# Altium footprint library RESISTOR.PcbLib: 17 footprints (part 1 of 2)
Each footprint in its own frame and in the unit in brackets; x right, y up, seen from the top. Pads: shape width x height; smd on the part's side, far side on the other; paste and mask are expansions set on the pad; w line width, h text height; cw(c..) or ccw(c..) is an arc to the next point about the centre after c.
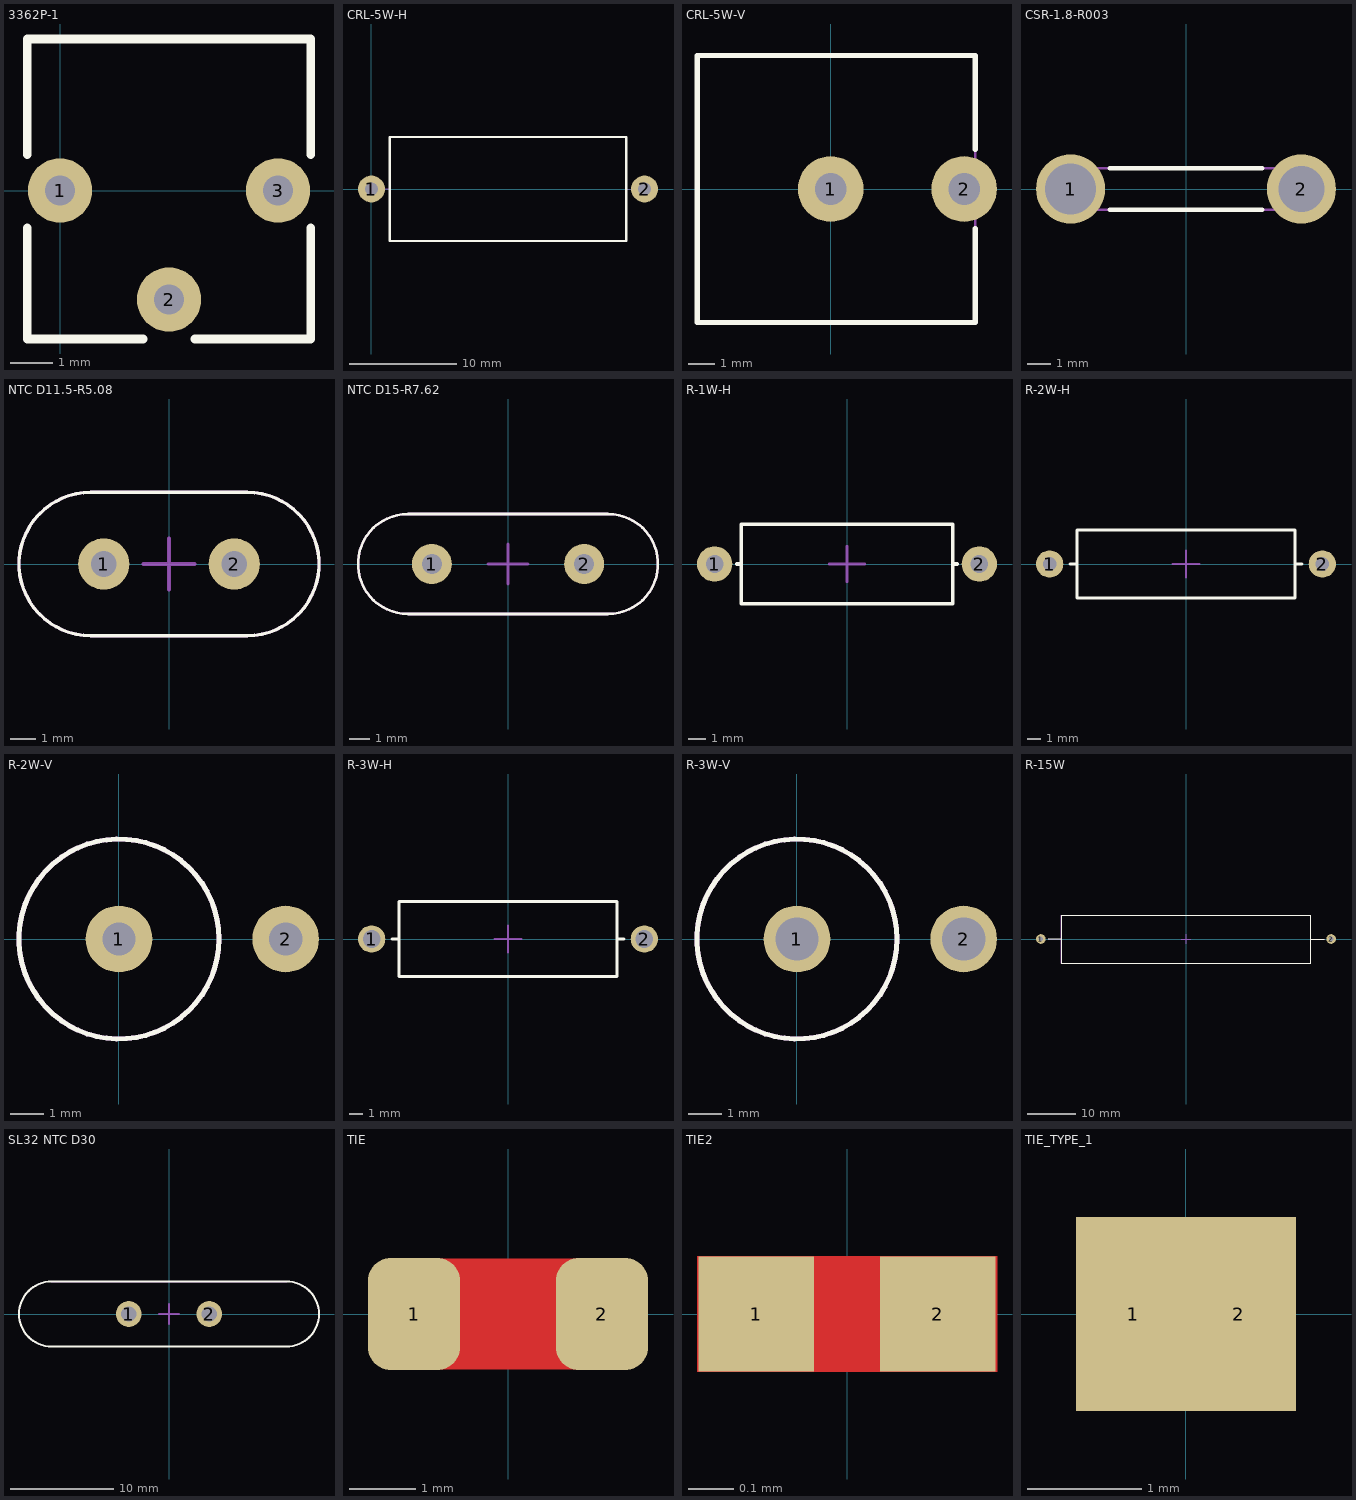
[diagram p0: the footprints below, top view; thin cyan lines are the x and y axes]

## 3362P-1 [mm]
pads (3):
  round 1.5 hole 0.7: 1(0,0) 2(2.54,-2.54) 3(5.08,0)
Top Overlay:
  lines w0.2: -0.762,3.53 5.84,3.53 5.84,0.83 ; -0.76,-0.87 -0.76,-3.46 1.94,-3.46 ; -0.76,0.83 -0.76,3.46 ; 3.14,-3.46 5.84,-3.46 5.84,-0.87
3D body "User Library-3362P-2.STEP": height 4.74, standoff -5.42, extent -0.813,-3.47 5.893,3.566

## CRL-5W-H [mm]
pads (2):
  round 2.5 hole 1.2: 1(0,0) 2(25.4,0)
Top Overlay:
  lines w0.2: 1.7,-4.85 23.7,-4.85 23.7,4.85 1.7,4.85 1.7,-4.85
Top Assembly:
  circle w0.15: c0,0 r0.15
  lines w0.1: 0,0 1.7,0 ; 23.7,0 25.4,0 ; 1.7,-4.85 23.7,-4.85 23.7,4.85 1.7,4.85 1.7,-4.85
3D body "User Library-SQP-5W.STEP": height 9.21, standoff -2.5, extent -0.5,-4.85 25.9,4.85

## CRL-5W-V [mm]
pads (2):
  round 2.5 hole 1.2: 1(0,0) 2(5.08,0)
Top Overlay:
  lines w0.2: 5.5,-1.5 5.5,-5.08 -5.08,-5.08 -5.08,5.08 5.5,5.08 5.5,1.5
Top Assembly:
  circle w0.15: c0,0 r0.15
  circle w0.15: c5,0 r0.15
  lines w0.1: 5,0 5.53,0 ; -5.09,-5.08 -5.08,-5.08 5.5,-5.08 5.5,5.08 -5.09,5.08 -5.09,-5.08
3D body "Res-(5W) 200Ver.STEP": height 1.4, standoff -24.05, extent -5.01,-5 5.53,5

## CSR-1.8-R003 [mm]
pads (2):
  round 3 hole 2.2: 1(-5,0)
  round 3 hole 2: 2(5,0)
Top Overlay:
  lines w0.2: -3.3,-0.9 3.3,-0.9 ; -3.3,0.9 3.3,0.9
Top Assembly:
  lines w0.1: -5,-0.9 5,-0.9 5,0.9 -5,0.9 -5,-0.9
3D body "ШУНТ.STEP": height 6.9, standoff -3, extent -5.9,-0.9 5.9,0.9

## NTC D11.5-R5.08 [mm]
pads (2):
  round 2 hole 1: 1(-2.54,0) 2(2.54,0)
Top Overlay:
  lines w0.127: 3.023,-2.794 -3.048,-2.794 cw(c-3.048,0) -3.048,2.794 3.048,2.794 cw(c3.048,0) 3.048,-2.794
Top Assembly:
  lines w0.127: 3.023,-2.794 -3.048,-2.794 cw(c-3.048,0) -3.048,2.794 3.048,2.794 cw(c3.048,0) 3.048,-2.794
Top Component Outline:
  lines w0.15: -1,0 1,0 ; 0,-1 0,1
3D body "NTC-B57236.STEP": height 17.25, standoff -2.12, extent -5.75,-2.8 5.75,2.8

## NTC D15-R7.62 [mm]
pads (2):
  round 2 hole 1: 1(-3.81,0) 2(3.81,0)
Top Overlay:
  lines w0.127: -5,-2.5 cw(c-5,0) -5,2.5 5,2.5 cw(c5,0) 5,-2.5 -5,-2.5
Top Assembly:
  lines w0.127: -5,-2.5 cw(c-5,0) -5,2.5 5,2.5 cw(c5,0) 5,-2.5 -5,-2.5
Top Component Outline:
  lines w0.15: -1,0 1,0 ; 0,-1 0,1
3D body "NTC-B57237-7.62mm.STEP": height 22.5, standoff -2.5, extent -7.5,-2.5 7.5,2.5

## R-1W-H [mm] "Резистор 1W горизонтальный"
pads (2):
  round 2 hole 1: 1(-7.5,0) 2(7.5,0)
Top Overlay:
  lines w0.2: -6.25,0 -6,0 ; 6,0 6.25,0 ; -6,-2.25 6,-2.25 6,2.25 -6,2.25 -6,-2.25
Top Assembly:
  lines w0.1: -6.25,0 -6,0 ; 6,0 6.25,0 ; -6,-2.25 -6,2.25 6,2.25 6,-2.25 -6,-2.25
Top Component Outline:
  lines w0.15: -1,0 1,0 ; 0,-1 0,1
3D body "RESAD1500W80L1200D450_1W.STEP": height 4.5, standoff -2.5, extent -7.9,-2.25 7.9,2.25

## R-2W-H [mm] "Резистор 2W горизонтальный"
pads (2):
  round 2 hole 1: 1(-10,0) 2(10,0)
Top Overlay:
  lines w0.2: -8.5,0 -8,0 ; 8,0 8.5,0 ; -8,-2.5 -8,2.5 8,2.5 8,-2.5 -8,-2.5
Top Assembly:
  lines w0.1: -8.5,0 -8,0 ; 8,0 8.5,0 ; -8,-2.5 8,-2.5 8,2.5 -8,2.5 -8,-2.5
Top Component Outline:
  lines w0.15: -1,0 1,0 ; 0,-1 0,1
3D body "RESAD2000W80L1600D500_2W.STEP": height 5, standoff -3, extent -10.4,-2.5 10.4,2.5

## R-2W-V [mm] "Резистор 2W вертикальный"
pads (2):
  round 2 hole 1: 1(0,0) 2(5,0)
Top Overlay:
  circle w0.15: c0,0 r3
Top Assembly:
  circle w0.15: c0,0 r3
3D body "RESAD500W80L1600D500_2W.STEP": height 20.19, standoff -3.21, extent -2.5,-2.5 5.4,2.5

## R-3W-H [mm] "Резистор 3W горизонтальный"
pads (2):
  round 2 hole 1.3: 1(-10,0) 2(10,0)
Top Overlay:
  lines w0.2: -8.5,0 -8,0 ; 8,0 8.5,0 ; -8,-2.75 8,-2.75 8,2.75 -8,2.75 -8,-2.75
Top Assembly:
  lines w0.1: -8.5,0 -8,0 ; 8,0 8.5,0 ; -8,-2.75 -8,2.75 8,2.75 8,-2.75 -8,-2.75
Top Component Outline:
  lines w0.15: -1,0 1,0 ; 0,-1 0,1
3D body "RESAD2000W80L1600D500_2W.STEP": height 5, standoff -3, extent -10.4,-2.5 10.4,2.5

## R-3W-V [mm] "Резистор 3W вертикальный"
pads (2):
  round 2 hole 1.3: 1(0,0) 2(5,0)
Top Overlay:
  circle w0.15: c0,0 r3
Top Assembly:
  circle w0.15: c0,0 r3
3D body "RESAD500W80L1600D500_2W.STEP": height 20.19, standoff -3.21, extent -2.5,-2.5 5.4,2.5

## R-15W [mm] "Резистор 15W горизонтальный"
pads (2):
  round 2 hole 1: 1(-30.25,0) 2(30.25,0)
Top Overlay:
  lines w0.2: -28.75,0 -26,0 ; 26,0 28.75,0 ; -26,-5 26,-5 26,5 -26,5 -26,-5
Top Assembly:
  lines w0.1: -28.75,0 -26,0 ; 26,0 28.75,0 ; -26,-5 26,-5 26,5 -26,5 -26,-5
Top Component Outline:
  lines w0.15: -1,0 1,0 ; 0,-1 0,1
3D body "12CS.step": height 10.05, standoff -8.46, extent -30.75,-5 30.75,5

## SL32 NTC D30 [mm] "Термистор SL32 диаметр 30мм"
pads (2):
  round 2.5 hole 1.5: 1(-3.9,0) 2(3.9,0)
Top Overlay:
  lines w0.2: -11.4,-3.15 cw(c-11.4,0) -11.4,3.15 11.4,3.15 cw(c11.4,0) 11.4,-3.15 -11.4,-3.15
Top Assembly:
  lines w0.1: -11.4,-3.15 cw(c-11.4,0) -11.4,3.15 11.4,3.15 cw(c11.4,0) 11.4,-3.15 -11.4,-3.15
Top Component Outline:
  lines w0.15: -1,0 1,0 ; 0,-1 0,1
3D body "User Library-ntc_sl32.STEP": height 35.5, standoff -5, extent -14.5,-3.15 14.5,3.15

## TIE [mm] "Chip Resistor, 2-Leads, Body 3,20x1,60mm, IPC Medium Density"
height 0.7
pads (2):
  rrect50% 1.4x1.7 smd: 1(-1.425,0) 2(1.425,0)
Top Layer:
  region: -1.143,0.838 1.125,0.838 1.125,-0.838 -1.143,-0.838

## TIE2 [mil]
pads (2):
  rect 10x10 smd paste-10: 1(-7.87,0) 2(7.87,0)
Top Layer:
  region: -13,5 13,5 13,-5 -13,-5

## TIE_TYPE_1 [mm]
height 0.7
pads (2):
  rect 1x1.7 smd mask+0.102: 1(-0.462,0) 2(0.463,0)